# EAGLE library part AP65111A (library marius)
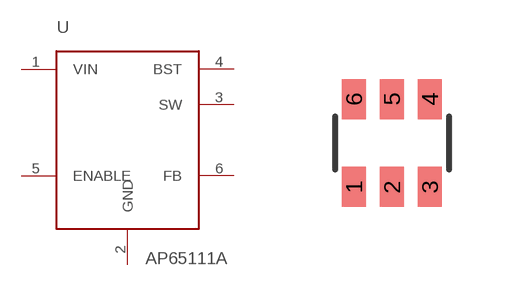
[diagram p1: symbol with the pads of TSOT26; footprint TSOT26]

Designator prefix U

## AP65111A (MPN: AP65111AWU-7)  [TSOT26]
1  VIN
2  GND
3  SW
4  BST
5  ENABLE
6  FB

## Footprint TSOT26 (pad centres in mm)
SOT-23
smd 0.6 x 1: 1 -0.95,-1.099; 2 0,-1.099; 3 0.95,-1.099; 4 0.95,1.099; 5 0,1.099; 6 -0.95,1.099